# Altium schematic symbol library MP1658.SchLib: 1 symbol
Pins are listed as number, name and electrical type; pins without a type are passive.

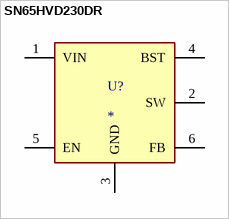
[diagram p0: symbol SN65HVD230DR]

## SN65HVD230DR
designator U?
3.3 V CAN Transceiver with Standby Mode; MF: Texas Instruments; MP: SN65HVD230DR; Availability: In Stock; SnapEDA_Link: https://www.snapeda.com/parts/SN65HVD230DR/Texas+Instruments/view-part/?ref=snap; Price: None; Check_prices: https://www.snapeda.com/parts/SN65HVD230DR/Texas+Instruments/view-part/?ref=eda; Package: SOIC-8 Texas Instruments; Value: *; Purchase-URL: https://pricing.snapeda.com/search/part/SN65HVD230DR/?ref=eda
footprint MP1658
pins: 1 VIN (power), 2 SW (power), 3 GND (power), 4 BST, 5 EN, 6 FB